# EAGLE library part RHA2116 (library harrison)
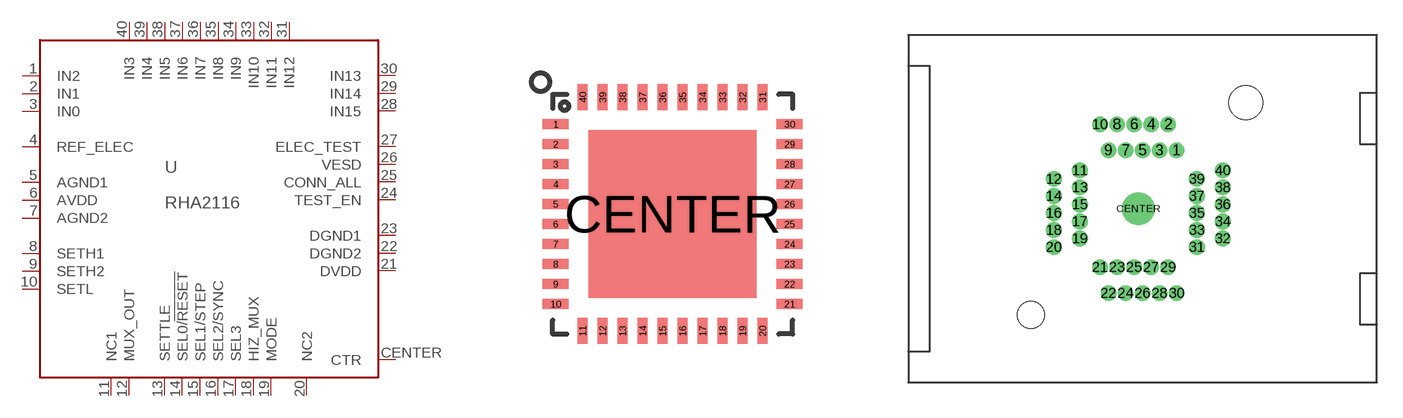
[diagram p39: symbol with the pads of QFN40_6_X_6; footprints QFN40_6_X_6, ZIF_QFN40_6_X_6]

Designator prefix U

## RHA2116QFN  [QFN40_6_X_6]
1  IN2  in
2  IN1  in
3  IN0  in
4  REF_ELEC  in
5  AGND1  pwr
6  AVDD  pwr
7  AGND2  pwr
8  SETH1  pas
9  SETH2  pas
10  SETL  pas
11  NC1  nc
12  MUX_OUT  hiz
13  SETTLE  in
14  SEL0/!RESET!  in
15  SEL1/STEP  in
16  SEL2/SYNC
17  SEL3
18  HIZ_MUX  in
19  MODE  in
20  NC2  nc
21  DVDD  pwr
22  DGND2  pwr
23  DGND1  pwr
24  TEST_EN  in
25  CONN_ALL  in
26  VESD  pwr
27  ELEC_TEST  in
28  IN15  in
29  IN14  in
30  IN13  in
31  IN12  in
32  IN11  in
33  IN10  in
34  IN9  in
35  IN8  in
36  IN7  in
37  IN6  in
38  IN5  in
39  IN4  in
40  IN3  in
CENTER  CTR  pwr

## RHA2116ZIF  [ZIF_QFN40_6_X_6]
Pads as for QFN40_6_X_6

## Footprint QFN40_6_X_6 (pad centres in mm)
smd 0.65 x 0.25: 1 -2.925,2.25; 2 -2.925,1.75; 3 -2.925,1.25; 4 -2.925,0.75; 5 -2.925,0.25; 6 -2.925,-0.25; 7 -2.925,-0.75; 8 -2.925,-1.25; 9 -2.925,-1.75; 10 -2.925,-2.25; 21 2.925,-2.25; 22 2.925,-1.75; 23 2.925,-1.25; 24 2.925,-0.75; 25 2.925,-0.25; 26 2.925,0.25; 27 2.925,0.75; 28 2.925,1.25; 29 2.925,1.75; 30 2.925,2.25
smd 0.25 x 0.65: 11 -2.25,-2.925; 12 -1.75,-2.925; 13 -1.25,-2.925; 14 -0.75,-2.925; 15 -0.25,-2.925; 16 0.25,-2.925; 17 0.75,-2.925; 18 1.25,-2.925; 19 1.75,-2.925; 20 2.25,-2.925; 31 2.25,2.925; 32 1.75,2.925; 33 1.25,2.925; 34 0.75,2.925; 35 0.25,2.925; 36 -0.25,2.925; 37 -0.75,2.925; 38 -1.25,2.925; 39 -1.75,2.925; 40 -2.25,2.925
smd 4.2 x 4.2: CENTER 0,0

## Footprint ZIF_QFN40_6_X_6 (pad centres in mm)
drill 0.41 pad 0.813: 1 2.25,3.43; 2 1.75,4.955; 3 1.25,3.43; 4 0.75,4.955; 5 0.25,3.43; 6 -0.25,4.955; 7 -0.75,3.43; 8 -1.25,4.955; 9 -1.75,3.43; 10 -2.25,4.955; 11 -3.43,2.25; 12 -4.955,1.75; 13 -3.43,1.25; 14 -4.955,0.75; 15 -3.43,0.25; 16 -4.955,-0.25; 17 -3.43,-0.75; 18 -4.955,-1.25; 19 -3.43,-1.75; 20 -4.955,-2.25; 21 -2.25,-3.43; 22 -1.75,-4.955; 23 -1.25,-3.43; 24 -0.75,-4.955; 25 -0.25,-3.43; 26 0.25,-4.955; 27 0.75,-3.43; 28 1.25,-4.955; 29 1.75,-3.43; 30 2.25,-4.955; 31 3.43,-2.25; 32 4.955,-1.75; 33 3.43,-1.25; 34 4.955,-0.75; 35 3.43,-0.25; 36 4.955,0.25; 37 3.43,0.75; 38 4.955,1.25; 39 3.43,1.75; 40 4.955,2.25
drill 1.02 pad 1.93: CENTER 0,0
hole 1.6 at -6.31,-6.23
hole 2 at 6.31,6.23